# Altium schematic symbol library SST39SF020A-70-4C-PHE.SchLib: 1 symbol
Pins are listed as number, name and electrical type; pins without a type are passive.

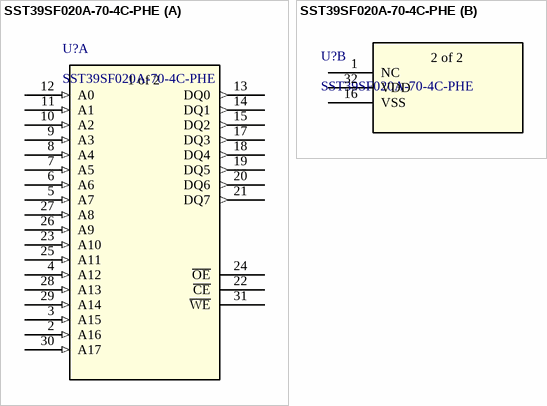
[diagram p0: symbol SST39SF020A-70-4C-PHE]

## SST39SF020A-70-4C-PHE
designator U?
No Description Available; Manufacturer_Name: Microchip; Copyright: Copyright (C) 2025 Ultra Librarian. All rights reserved.; Manufacturer_Part_Number: SST39SF020A-70-4C-PHE; RefDes: RefDes; Type: Type
footprint PDIP32_PH_SST_MCH
part A pins: 2 A16 (in), 3 A15 (in), 4 A12 (in), 5 A7 (in), 6 A6 (in), 7 A5 (in), 8 A4 (in), 9 A3 (in), 10 A2 (in), 11 A1 (in), 12 A0 (in), 13 DQ0 (out), 14 DQ1 (out), 15 DQ2 (out), 17 DQ3 (out), 18 DQ4 (out), 19 DQ5 (out), 20 DQ6 (out), 21 DQ7 (out), 22 ~{CE}, 23 A10 (in), 24 ~{OE}, 25 A11 (in), 26 A9 (in), 27 A8 (in), 28 A13 (in), 29 A14 (in), 30 A17 (in), 31 ~{WE}
part B pins: 1 NC, 16 VSS (power), 32 VDD (power)
part A text: 1 of 2
part B text: 2 of 2